# EAGLE library part LTC3210-1 (library PowerProducts)
MAIN/CAM LED Controller with 64-Step Brightness Control in 3mm x 3mm QFN
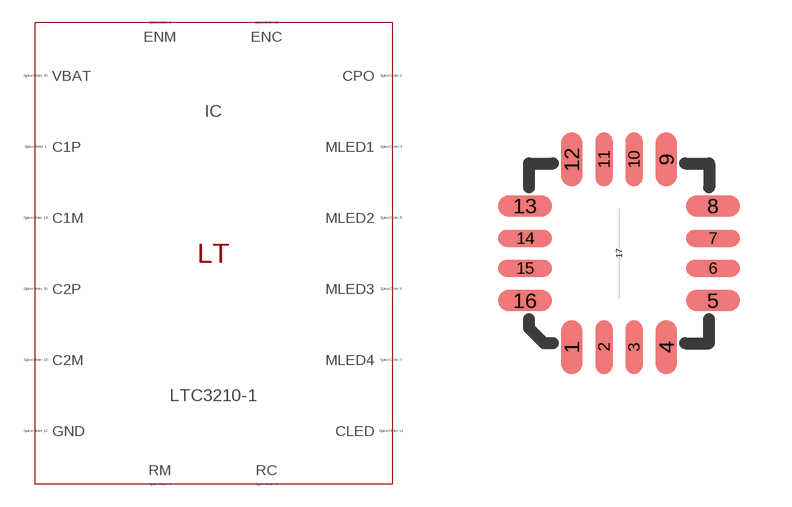
[diagram p136: symbol with the pads of QFN16(UD); footprint QFN16(UD)]

Designator prefix IC

## LTC3210-1 (SPICEMODEL: LTC3210-1.sub; SPICEPREFIX: X; VALUE2: LTC3210-1)  [QFN16(UD)]
1  C1P  pas
2  CPO  pas
3  ENM  pas
4  MLED1  pas
5  MLED2  pas
6  MLED3  pas
7  MLED4  pas
8  RM  pas
9  RC  pas
10  ENC  pas
11  CLED  pas
12  GND  pas
13  C2M  pas
14  C1M  pas
15  VBAT  pas
16  C2P  pas
17  GND  pas

## Footprint QFN16(UD) (pad centres in mm)
Package generated from: QFN16(UD).asc (!PADS-POWERPCB-V9.3-BASIC! DESIGN DATABASE ASCII FILE 1.0) with :import-pads-powerpcb-v5.ulp Version 1.0.1 at 04.10.2012 14:11:23
smd 0.54 x 1.35: 1 -1.185,-2.348; 4 1.185,-2.348; 9 1.185,2.348; 12 -1.185,2.348
smd 0.42 x 1.35: 2 -0.375,-2.348; 3 0.375,-2.348; 10 0.375,2.348; 11 -0.375,2.348
smd 1.35 x 0.54: 5 2.348,-1.185; 8 2.348,1.185; 13 -2.348,1.185; 16 -2.348,-1.185
smd 1.35 x 0.42: 6 2.348,-0.375; 7 2.348,0.375; 14 -2.348,0.375; 15 -2.348,-0.375
smd 0 x 2.25: 17 0,0